# EAGLE library part VCNL3020 (library PP_Sensors)
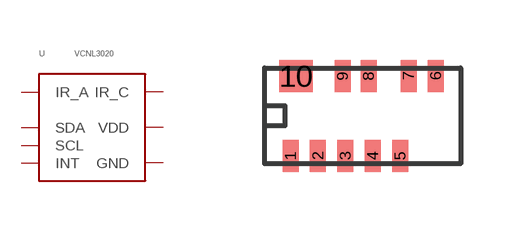
[diagram p0: symbol with the pads of VCNL3020; footprint VCNL3020]

Designator prefix U

## VCNL3020  [VCNL3020]
1  IR_A
2  SDA
3  INT
4  SCL
5  VDD
8  GND
9  GND
10  IR_C

## Footprint VCNL3020 (pad centres in mm)
smd 0.4 x 0.8: 1 0.65,-1; 2 1.335,-1; 3 2.02,-1; 4 2.705,-1; 5 3.39,-1; 6 4.28,1; 7 3.6,1; 8 2.6,1; 9 1.95,1
smd 0.83 x 0.8: 10 0.785,1